# EAGLE library part HT82V739 (library AMP)
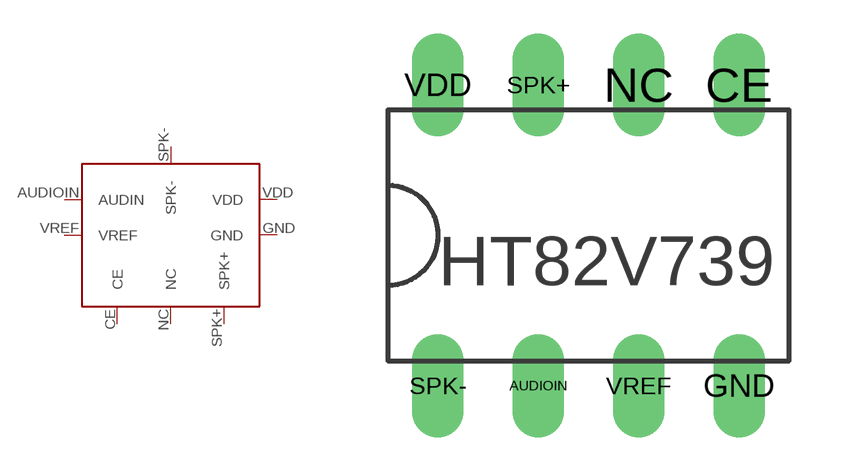
[diagram p0: symbol with the pads of HT82V739; footprint HT82V739]

Designator prefix -

## HT82V739  [HT82V739]
AUDIOIN  AUDIN
CE  CE
GND  GND
NC  NC
SPK+  SPK+
SPK-  SPK-
VDD  VDD
VREF  VREF

## Footprint HT82V739 (pad centres in mm)
drill 0.8 long: AUDIOIN -1.27,-3.81; CE 3.81,3.81; GND 3.81,-3.81; NC 1.27,3.81; SPK+ -1.27,3.81; SPK- -3.81,-3.81; VDD -3.81,3.81; VREF 1.27,-3.81